# EAGLE library part 93AA46 (library ads)
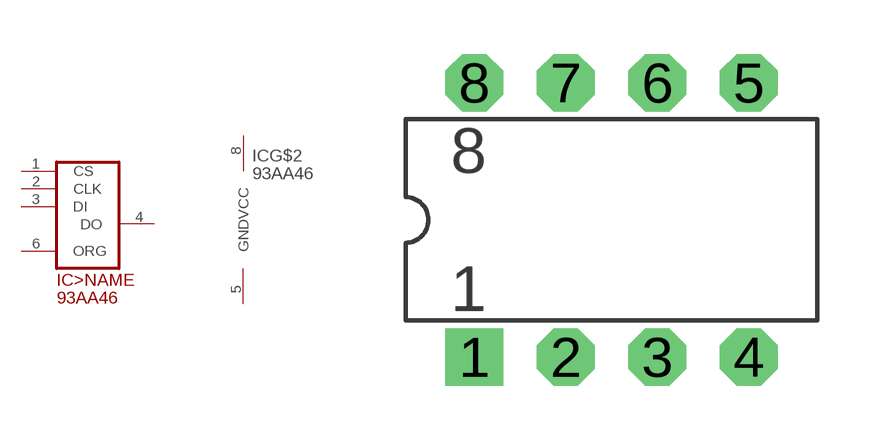
[diagram p2: symbol with the pads of DIP08; footprint DIP08]

Designator prefix IC; gates >NAME=93AA46 G$2=POWER2

## 93AA46  [DIP08]
1  >NAME:CS  in
2  >NAME:CLK  in
3  >NAME:DI  in
4  >NAME:DO  out
5  G$2:GND  pwr
6  >NAME:ORG  in
8  G$2:VCC  pwr

## Footprint DIP08 (pad centres in mm)
drill 0.813 pad 1.6 square: 1 1.27,-3.81
drill 0.813 pad 1.6 octagon: 2 3.81,-3.81; 3 6.35,-3.81; 4 8.89,-3.81; 5 8.89,3.81; 6 6.35,3.81; 7 3.81,3.81; 8 1.27,3.81